# Altium integrated library Capacitor - Aluminium TH.IntLib: 4591 symbols (part 23 of 68)
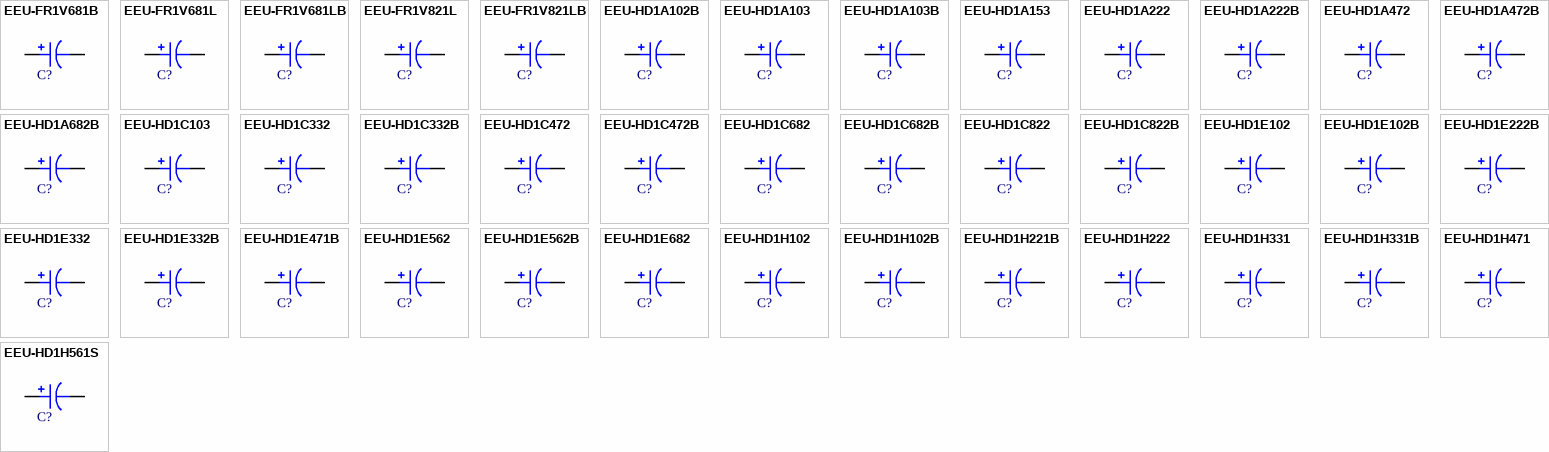
[diagram p136: symbols EEU-FR1V681B to EEU-HD1H561S]

## EEU-HD1C682
designator C?, comment 6800uF  (value not drawn)
CAP ALUM 6800UF 20% 16V RADIAL; Part Number: EEU-HD1C682; Manufacturer: Panasonic Electronic Components; TemperatureRange: -55C ~ 105C; Type: Polar; Ripple Current: 1.78A @ 120Hz; Value: 6800uF; PartId: 26969; Supplier 1: Digi-Key; Supplier Part Number 1: P15135-ND; ComponentLink1Description: Datasheet; ComponentLink1URL: //media.digikey.com/pdf/Data%20Sheets/Panasonic%20Capacitors%20PDFs/EEU-HD_Series_Spec.pdf; ComponentLink2Description: Digi-Key Listing; ComponentLink2URL: https://www.digikey.com/product-detail/en/panasonic-electronic-components/EEU-HD1C682/P15135-ND/2796090; Tolerance: 20%; Voltage: 16V; Price: 2.44; Device Package: Radial, Can, 16mm
footprint CAP AL TH D16 L7.5 H27
pins: 1, 2

## EEU-HD1C682B
designator C?, comment 6800uF  (value not drawn)
CAP ALUM 6800UF 20% 16V RADIAL; Part Number: EEU-HD1C682B; Manufacturer: Panasonic Electronic Components; TemperatureRange: -55C ~ 105C; Type: Polar; Ripple Current: 1.78A @ 120Hz; Value: 6800uF; PartId: 26877; Supplier 1: Digi-Key; Supplier Part Number 1: P15733TB-ND; ComponentLink1Description: Datasheet; ComponentLink1URL: //media.digikey.com/pdf/Data%20Sheets/Panasonic%20Capacitors%20PDFs/EEU-HD_Series_Spec.pdf; ComponentLink2Description: Digi-Key Listing; ComponentLink2URL: https://www.digikey.com/product-detail/en/panasonic-electronic-components/EEU-HD1C682B/P15733TB-ND/2764408; Tolerance: 20%; Voltage: 16V; Price: 1.2911; Device Package: Radial, Can, 16mm
footprint CAP AL TH D16 L7.5 H27
pins: 1, 2

## EEU-HD1C822
designator C?, comment 8200uF  (value not drawn)
CAP ALUM 8200UF 20% 16V RADIAL; Part Number: EEU-HD1C822; Manufacturer: Panasonic Electronic Components; TemperatureRange: -55C ~ 105C; Type: Polar; Ripple Current: 1.78A @ 120Hz; Value: 8200uF; PartId: 26967; Supplier 1: Digi-Key; Supplier Part Number 1: P15134-ND; ComponentLink1Description: Datasheet; ComponentLink1URL: //media.digikey.com/pdf/Data%20Sheets/Panasonic%20Capacitors%20PDFs/EEU-HD_Series_Spec.pdf; ComponentLink2Description: Digi-Key Listing; ComponentLink2URL: https://www.digikey.com/product-detail/en/panasonic-electronic-components/EEU-HD1C822/P15134-ND/2796091; Tolerance: 20%; Voltage: 16V; Price: 2.44; Device Package: Radial, Can, 16mm
footprint CAP AL TH D16 L7.5 H27
pins: 1, 2

## EEU-HD1C822B
designator C?, comment 8200uF  (value not drawn)
CAP ALUM 8200UF 20% 16V RADIAL; Part Number: EEU-HD1C822B; Manufacturer: Panasonic Electronic Components; TemperatureRange: -55C ~ 105C; Type: Polar; Ripple Current: 1.78A @ 120Hz; Value: 8200uF; PartId: 26876; Supplier 1: Digi-Key; Supplier Part Number 1: P15734TB-ND; ComponentLink1Description: Datasheet; ComponentLink1URL: //media.digikey.com/pdf/Data%20Sheets/Panasonic%20Capacitors%20PDFs/EEU-HD_Series_Spec.pdf; ComponentLink2Description: Digi-Key Listing; ComponentLink2URL: https://www.digikey.com/product-detail/en/panasonic-electronic-components/EEU-HD1C822B/P15734TB-ND/2764411; Tolerance: 20%; Voltage: 16V; Price: 1.2911; Device Package: Radial, Can, 16mm
footprint CAP AL TH D16 L7.5 H27
pins: 1, 2

## EEU-HD1E102
designator C?, comment 1000uF  (value not drawn)
CAP ALUM 1000UF 20% 25V RADIAL; Part Number: EEU-HD1E102; Manufacturer: Panasonic Electronic Components; TemperatureRange: -55C ~ 105C; Type: Polar; Ripple Current: 680mA @ 120Hz; Value: 1000uF; PartId: 25418; Supplier 1: Digi-Key; Supplier Part Number 1: P15144-ND; ComponentLink1Description: Datasheet; ComponentLink1URL: //media.digikey.com/pdf/Data%20Sheets/Panasonic%20Capacitors%20PDFs/EEU-HD_Series_Spec.pdf; ComponentLink2Description: Digi-Key Listing; ComponentLink2URL: https://www.digikey.com/product-detail/en/panasonic-electronic-components/EEU-HD1E102/P15144-ND/2796093; Tolerance: 20%; Voltage: 25V; Price: 0.99; Device Package: Radial, Can, 10mm
footprint CAP AL TH D10 L5 H17.5
pins: 1, 2

## EEU-HD1E102B
designator C?, comment 1000uF  (value not drawn)
CAP ALUM 1000UF 20% 25V RADIAL; Part Number: EEU-HD1E102B; Manufacturer: Panasonic Electronic Components; TemperatureRange: -55C ~ 105C; Type: Polar; Ripple Current: 680mA @ 120Hz; Value: 1000uF; PartId: 25166; Supplier 1: Digi-Key; Supplier Part Number 1: P15736TB-ND; ComponentLink1Description: Datasheet; ComponentLink1URL: //media.digikey.com/pdf/Data%20Sheets/Panasonic%20Capacitors%20PDFs/EEU-HD_Series_Spec.pdf; ComponentLink2Description: Digi-Key Listing; ComponentLink2URL: https://www.digikey.com/product-detail/en/panasonic-electronic-components/EEU-HD1E102B/P15736TB-ND/2764416; Tolerance: 20%; Voltage: 25V; Price: 0.4447; Device Package: Radial, Can, 10mm
footprint CAP AL TH D10 L5 H17.5
pins: 1, 2

## EEU-HD1E222B
designator C?, comment 2200uF  (value not drawn)
CAP ALUM 2200UF 20% 25V RADIAL; Part Number: EEU-HD1E222B; Manufacturer: Panasonic Electronic Components; TemperatureRange: -55C ~ 105C; Type: Polar; Ripple Current: 1.09A @ 120Hz; Value: 2200uF; PartId: 23516; Supplier 1: Digi-Key; Supplier Part Number 1: P15738CT-ND; ComponentLink1Description: Datasheet; ComponentLink1URL: //media.digikey.com/pdf/Data%20Sheets/Panasonic%20Capacitors%20PDFs/EEU-HD_Series_Spec.pdf; ComponentLink2Description: Digi-Key Listing; ComponentLink2URL: https://www.digikey.com/product-detail/en/panasonic-electronic-components/EEU-HD1E222B/P15738CT-ND/3831105; Tolerance: 20%; Voltage: 25V; Price: 1.77; Device Package: Radial, Can, 12.5mm
footprint CAP AL TH D12.5 L5 H22
pins: 1, 2

## EEU-HD1E332
designator C?, comment 3300uF  (value not drawn)
CAP ALUM 3300UF 20% 25V RADIAL; Part Number: EEU-HD1E332; Manufacturer: Panasonic Electronic Components; TemperatureRange: -55C ~ 105C; Type: Polar; Ripple Current: 1.4A @ 120Hz; Value: 3300uF; PartId: 24176; Supplier 1: Digi-Key; Supplier Part Number 1: P15142-ND; ComponentLink1Description: Datasheet; ComponentLink1URL: //media.digikey.com/pdf/Data%20Sheets/Panasonic%20Capacitors%20PDFs/EEU-HD_Series_Spec.pdf; ComponentLink2Description: Digi-Key Listing; ComponentLink2URL: https://www.digikey.com/product-detail/en/panasonic-electronic-components/EEU-HD1E332/P15142-ND/2796098; Tolerance: 20%; Voltage: 25V; Price: 1.9; Device Package: Radial, Can, 12.5mm
footprint CAP AL TH D12.5 L5 H27
pins: 1, 2

## EEU-HD1E332B
designator C?, comment 3300uF  (value not drawn)
CAP ALUM 3300UF 20% 25V RADIAL; Part Number: EEU-HD1E332B; Manufacturer: Panasonic Electronic Components; TemperatureRange: -55C ~ 105C; Type: Polar; Ripple Current: 1.4A @ 120Hz; Value: 3300uF; PartId: 23901; Supplier 1: Digi-Key; Supplier Part Number 1: P15740TB-ND; ComponentLink1Description: Datasheet; ComponentLink1URL: //media.digikey.com/pdf/Data%20Sheets/Panasonic%20Capacitors%20PDFs/EEU-HD_Series_Spec.pdf; ComponentLink2Description: Digi-Key Listing; ComponentLink2URL: https://www.digikey.com/product-detail/en/panasonic-electronic-components/EEU-HD1E332B/P15740TB-ND/2764382; Tolerance: 20%; Voltage: 25V; Price: 0.895; Device Package: Radial, Can, 12.5mm
footprint CAP AL TH D12.5 L5 H27
pins: 1, 2

## EEU-HD1E471B
designator C?, comment 470uF  (value not drawn)
CAP ALUM 470UF 20% 25V RADIAL; Part Number: EEU-HD1E471B; Manufacturer: Panasonic Electronic Components; TemperatureRange: -55C ~ 105C; Type: Polar; Ripple Current: 380mA @ 120Hz; Value: 470uF; PartId: 24795; Supplier 1: Digi-Key; Supplier Part Number 1: P15742TB-ND; ComponentLink1Description: Datasheet; ComponentLink1URL: //media.digikey.com/pdf/Data%20Sheets/Panasonic%20Capacitors%20PDFs/EEU-HD_Series_Spec.pdf; ComponentLink2Description: Digi-Key Listing; ComponentLink2URL: https://www.digikey.com/product-detail/en/panasonic-electronic-components/EEU-HD1E471B/P15742TB-ND/2764389; Tolerance: 20%; Voltage: 25V; Price: 0.4473; Device Package: Radial, Can, 10mm
footprint CAP AL TH D10 L5 H14.5
pins: 1, 2

## EEU-HD1E562
designator C?, comment 5600uF  (value not drawn)
CAP ALUM 5600UF 20% 25V RADIAL; Part Number: EEU-HD1E562; Manufacturer: Panasonic Electronic Components; TemperatureRange: -55C ~ 105C; Type: Polar; Ripple Current: 1.75A @ 120Hz; Value: 5600uF; PartId: 26966; Supplier 1: Digi-Key; Supplier Part Number 1: P15140-ND; ComponentLink1Description: Datasheet; ComponentLink1URL: //media.digikey.com/pdf/Data%20Sheets/Panasonic%20Capacitors%20PDFs/EEU-HD_Series_Spec.pdf; ComponentLink2Description: Digi-Key Listing; ComponentLink2URL: https://www.digikey.com/product-detail/en/panasonic-electronic-components/EEU-HD1E562/P15140-ND/2796102; Tolerance: 20%; Voltage: 25V; Price: 2.44; Device Package: Radial, Can, 16mm
footprint CAP AL TH D16 L7.5 H27
pins: 1, 2

## EEU-HD1E562B
designator C?, comment 5600uF  (value not drawn)
CAP ALUM 5600UF 20% 25V RADIAL; Part Number: EEU-HD1E562B; Manufacturer: Panasonic Electronic Components; TemperatureRange: -55C ~ 105C; Type: Polar; Ripple Current: 1.75A @ 120Hz; Value: 5600uF; PartId: 26873; Supplier 1: Digi-Key; Supplier Part Number 1: P15744TB-ND; ComponentLink1Description: Datasheet; ComponentLink1URL: //media.digikey.com/pdf/Data%20Sheets/Panasonic%20Capacitors%20PDFs/EEU-HD_Series_Spec.pdf; ComponentLink2Description: Digi-Key Listing; ComponentLink2URL: https://www.digikey.com/product-detail/en/panasonic-electronic-components/EEU-HD1E562B/P15744TB-ND/2764394; Tolerance: 20%; Voltage: 25V; Price: 1.2911; Device Package: Radial, Can, 16mm
footprint CAP AL TH D16 L7.5 H27
pins: 1, 2

## EEU-HD1E682
designator C?, comment 6800uF  (value not drawn)
CAP ALUM 6800UF 20% 25V RADIAL; Part Number: EEU-HD1E682; Manufacturer: Panasonic Electronic Components; TemperatureRange: -55C ~ 105C; Type: Polar; Ripple Current: 2.04A @ 120Hz; Value: 6800uF; PartId: 27269; Supplier 1: Digi-Key; Supplier Part Number 1: P15138-ND; ComponentLink1Description: Datasheet; ComponentLink1URL: //media.digikey.com/pdf/Data%20Sheets/Panasonic%20Capacitors%20PDFs/EEU-HD_Series_Spec.pdf; ComponentLink2Description: Digi-Key Listing; ComponentLink2URL: https://www.digikey.com/product-detail/en/panasonic-electronic-components/EEU-HD1E682/P15138-ND/2796104; Tolerance: 20%; Voltage: 25V; Price: 2.99; Device Package: Radial, Can, 16mm
footprint CAP AL TH D16 L7.5 H33.5
pins: 1, 2

## EEU-HD1H102
designator C?, comment 1000uF  (value not drawn)
CAP ALUM 1000UF 20% 50V RADIAL; Part Number: EEU-HD1H102; Manufacturer: Panasonic Electronic Components; TemperatureRange: -55C ~ 105C; Type: Polar; Ripple Current: 950mA @ 120Hz; Value: 1000uF; PartId: 24179; Supplier 1: Digi-Key; Supplier Part Number 1: P15163-ND; ComponentLink1Description: Datasheet; ComponentLink1URL: //media.digikey.com/pdf/Data%20Sheets/Panasonic%20Capacitors%20PDFs/EEU-HD_Series_Spec.pdf; ComponentLink2Description: Digi-Key Listing; ComponentLink2URL: https://www.digikey.com/product-detail/en/panasonic-electronic-components/EEU-HD1H102/P15163-ND/2796764; Tolerance: 20%; Voltage: 50V; Price: 1.9; Device Package: Radial, Can, 12.5mm
footprint CAP AL TH D12.5 L5 H27
pins: 1, 2

## EEU-HD1H102B
designator C?, comment 1000uF  (value not drawn)
CAP ALUM 1000UF 20% 50V RADIAL; Part Number: EEU-HD1H102B; Manufacturer: Panasonic Electronic Components; TemperatureRange: -55C ~ 105C; Type: Polar; Ripple Current: 950mA @ 120Hz; Value: 1000uF; PartId: 23904; Supplier 1: Digi-Key; Supplier Part Number 1: P15748TB-ND; ComponentLink1Description: Datasheet; ComponentLink1URL: //media.digikey.com/pdf/Data%20Sheets/Panasonic%20Capacitors%20PDFs/EEU-HD_Series_Spec.pdf; ComponentLink2Description: Digi-Key Listing; ComponentLink2URL: https://www.digikey.com/product-detail/en/panasonic-electronic-components/EEU-HD1H102B/P15748TB-ND/2764406; Tolerance: 20%; Voltage: 50V; Price: 0.895; Device Package: Radial, Can, 12.5mm
footprint CAP AL TH D12.5 L5 H27
pins: 1, 2

## EEU-HD1H221B
designator C?, comment 220uF  (value not drawn)
CAP ALUM 220UF 20% 50V RADIAL; Part Number: EEU-HD1H221B; Manufacturer: Panasonic Electronic Components; TemperatureRange: -55C ~ 105C; Type: Polar; Ripple Current: 300mA @ 120Hz; Value: 220uF; PartId: 24794; Supplier 1: Digi-Key; Supplier Part Number 1: P15751TB-ND; ComponentLink1Description: Datasheet; ComponentLink1URL: //media.digikey.com/pdf/Data%20Sheets/Panasonic%20Capacitors%20PDFs/EEU-HD_Series_Spec.pdf; ComponentLink2Description: Digi-Key Listing; ComponentLink2URL: https://www.digikey.com/product-detail/en/panasonic-electronic-components/EEU-HD1H221B/P15751TB-ND/2764417; Tolerance: 20%; Voltage: 50V; Price: 0.4473; Device Package: Radial, Can, 10mm
footprint CAP AL TH D10 L5 H14.5
pins: 1, 2

## EEU-HD1H222
designator C?, comment 2200uF  (value not drawn)
CAP ALUM 2200UF 20% 50V RADIAL; Part Number: EEU-HD1H222; Manufacturer: Panasonic Electronic Components; TemperatureRange: -55C ~ 105C; Type: Polar; Ripple Current: 1.47A @ 120Hz; Value: 2200uF; PartId: 27271; Supplier 1: Digi-Key; Supplier Part Number 1: P15152-ND; ComponentLink1Description: Datasheet; ComponentLink1URL: //media.digikey.com/pdf/Data%20Sheets/Panasonic%20Capacitors%20PDFs/EEU-HD_Series_Spec.pdf; ComponentLink2Description: Digi-Key Listing; ComponentLink2URL: https://www.digikey.com/product-detail/en/panasonic-electronic-components/EEU-HD1H222/P15152-ND/2796768; Tolerance: 20%; Voltage: 50V; Price: 2.99; Device Package: Radial, Can, 16mm
footprint CAP AL TH D16 L7.5 H33.5
pins: 1, 2

## EEU-HD1H331
designator C?, comment 330uF  (value not drawn)
CAP ALUM 330UF 20% 50V RADIAL; Part Number: EEU-HD1H331; Manufacturer: Panasonic Electronic Components; TemperatureRange: -55C ~ 105C; Type: Polar; Ripple Current: 410mA @ 120Hz; Value: 330uF; PartId: 25419; Supplier 1: Digi-Key; Supplier Part Number 1: P15158-ND; ComponentLink1Description: Datasheet; ComponentLink1URL: //media.digikey.com/pdf/Data%20Sheets/Panasonic%20Capacitors%20PDFs/EEU-HD_Series_Spec.pdf; ComponentLink2Description: Digi-Key Listing; ComponentLink2URL: https://www.digikey.com/product-detail/en/panasonic-electronic-components/EEU-HD1H331/P15158-ND/2796771; Tolerance: 20%; Voltage: 50V; Price: 0.99; Device Package: Radial, Can, 10mm
footprint CAP AL TH D10 L5 H17.5
pins: 1, 2

## EEU-HD1H331B
designator C?, comment 330uF  (value not drawn)
CAP ALUM 330UF 20% 50V RADIAL; Part Number: EEU-HD1H331B; Manufacturer: Panasonic Electronic Components; TemperatureRange: -55C ~ 105C; Type: Polar; Ripple Current: 410mA @ 120Hz; Value: 330uF; PartId: 25164; Supplier 1: Digi-Key; Supplier Part Number 1: P15754TB-ND; ComponentLink1Description: Datasheet; ComponentLink1URL: //media.digikey.com/pdf/Data%20Sheets/Panasonic%20Capacitors%20PDFs/EEU-HD_Series_Spec.pdf; ComponentLink2Description: Digi-Key Listing; ComponentLink2URL: https://www.digikey.com/product-detail/en/panasonic-electronic-components/EEU-HD1H331B/P15754TB-ND/2764424; Tolerance: 20%; Voltage: 50V; Price: 0.4447; Device Package: Radial, Can, 10mm
footprint CAP AL TH D10 L5 H17.5
pins: 1, 2

## EEU-HD1H471
designator C?, comment 470uF  (value not drawn)
CAP ALUM 470UF 20% 50V RADIAL; Part Number: EEU-HD1H471; Manufacturer: Panasonic Electronic Components; TemperatureRange: -55C ~ 105C; Type: Polar; Ripple Current: 530mA @ 120Hz; Value: 470uF; PartId: 25992; Supplier 1: Digi-Key; Supplier Part Number 1: P15149-ND; ComponentLink1Description: Datasheet; ComponentLink1URL: //media.digikey.com/pdf/Data%20Sheets/Panasonic%20Capacitors%20PDFs/EEU-HD_Series_Spec.pdf; ComponentLink2Description: Digi-Key Listing; ComponentLink2URL: https://www.digikey.com/product-detail/en/panasonic-electronic-components/EEU-HD1H471/P15149-ND/2796775; Tolerance: 20%; Voltage: 50V; Price: 1.18; Device Package: Radial, Can, 10mm
footprint CAP AL TH D10 L5 H22
pins: 1, 2

## EEU-HD1H561S
designator C?, comment 560uF  (value not drawn)
CAP ALUM 560UF 20% 50V RADIAL; Part Number: EEU-HD1H561S; Manufacturer: Panasonic Electronic Components; TemperatureRange: -55C ~ 105C; Type: Polar; Ripple Current: 650mA @ 120Hz; Value: 560uF; PartId: 26263; Supplier 1: Digi-Key; Supplier Part Number 1: P15159-ND; ComponentLink1Description: Datasheet; ComponentLink1URL: //media.digikey.com/pdf/Data%20Sheets/Panasonic%20Capacitors%20PDFs/EEU-HD_Series_Spec.pdf; ComponentLink2Description: Digi-Key Listing; ComponentLink2URL: https://www.digikey.com/product-detail/en/panasonic-electronic-components/EEU-HD1H561S/P15159-ND/2796777; Tolerance: 20%; Voltage: 50V; Price: 1.79; Device Package: Radial, Can, 16mm
footprint CAP AL TH D16 L7.5 H16.5
pins: 1, 2

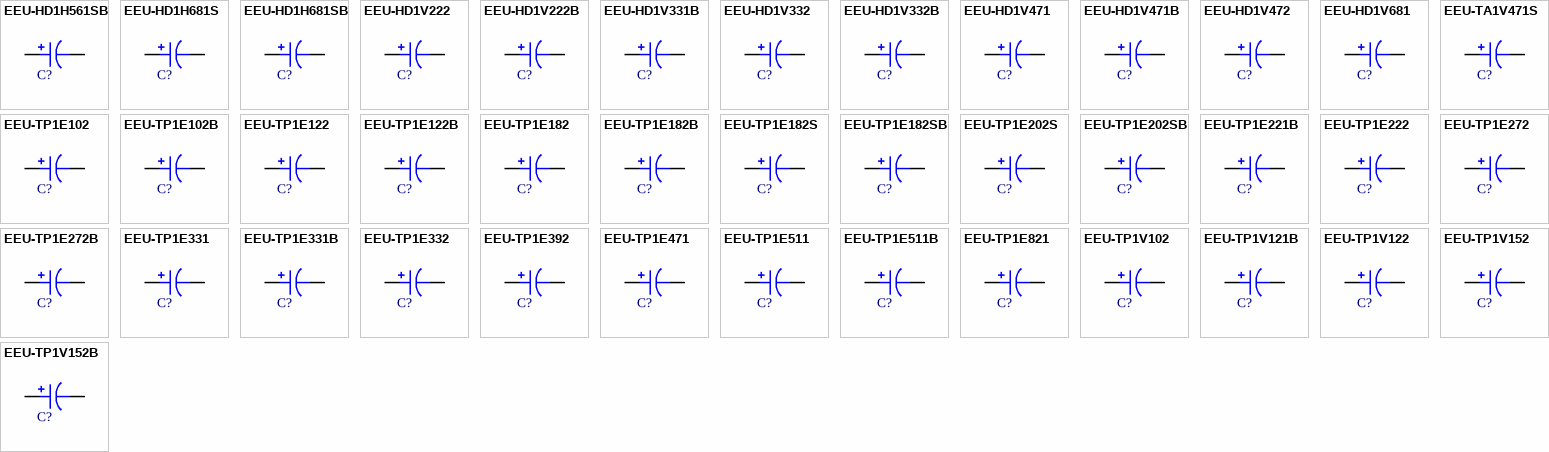
[diagram p37: symbols EEU-HD1H561SB to EEU-TP1V152B]

## EEU-HD1H561SB
designator C?, comment 560uF  (value not drawn)
CAP ALUM 560UF 20% 50V RADIAL; Part Number: EEU-HD1H561SB; Manufacturer: Panasonic Electronic Components; TemperatureRange: -55C ~ 105C; Type: Polar; Ripple Current: 650mA @ 120Hz; Value: 560uF; PartId: 26259; Supplier 1: Digi-Key; Supplier Part Number 1: P15759TB-ND; ComponentLink1Description: Datasheet; ComponentLink1URL: //media.digikey.com/pdf/Data%20Sheets/Panasonic%20Capacitors%20PDFs/EEU-HD_Series_Spec.pdf; ComponentLink2Description: Digi-Key Listing; ComponentLink2URL: https://www.digikey.com/product-detail/en/panasonic-electronic-components/EEU-HD1H561SB/P15759TB-ND/2764433; Tolerance: 20%; Voltage: 50V; Price: 0.9475; Device Package: Radial, Can, 16mm
footprint CAP AL TH D16 L7.5 H16.5
pins: 1, 2

## EEU-HD1H681S
designator C?, comment 680uF  (value not drawn)
CAP ALUM 680UF 20% 50V RADIAL; Part Number: EEU-HD1H681S; Manufacturer: Panasonic Electronic Components; TemperatureRange: -55C ~ 105C; Type: Polar; Ripple Current: 650mA @ 120Hz; Value: 680uF; PartId: 26262; Supplier 1: Digi-Key; Supplier Part Number 1: P15165-ND; ComponentLink1Description: Datasheet; ComponentLink1URL: //media.digikey.com/pdf/Data%20Sheets/Panasonic%20Capacitors%20PDFs/EEU-HD_Series_Spec.pdf; ComponentLink2Description: Digi-Key Listing; ComponentLink2URL: https://www.digikey.com/product-detail/en/panasonic-electronic-components/EEU-HD1H681S/P15165-ND/2796835; Tolerance: 20%; Voltage: 50V; Price: 1.79; Device Package: Radial, Can, 16mm
footprint CAP AL TH D16 L7.5 H16.5
pins: 1, 2

## EEU-HD1H681SB
designator C?, comment 680uF  (value not drawn)
CAP ALUM 680UF 20% 50V RADIAL; Part Number: EEU-HD1H681SB; Manufacturer: Panasonic Electronic Components; TemperatureRange: -55C ~ 105C; Type: Polar; Ripple Current: 650mA @ 120Hz; Value: 680uF; PartId: 26260; Supplier 1: Digi-Key; Supplier Part Number 1: P15761TB-ND; ComponentLink1Description: Datasheet; ComponentLink1URL: //media.digikey.com/pdf/Data%20Sheets/Panasonic%20Capacitors%20PDFs/EEU-HD_Series_Spec.pdf; ComponentLink2Description: Digi-Key Listing; ComponentLink2URL: https://www.digikey.com/product-detail/en/panasonic-electronic-components/EEU-HD1H681SB/P15761TB-ND/2764384; Tolerance: 20%; Voltage: 50V; Price: 0.9475; Device Package: Radial, Can, 16mm
footprint CAP AL TH D16 L7.5 H16.5
pins: 1, 2

## EEU-HD1V222
designator C?, comment 2200uF  (value not drawn)
CAP ALUM 2200UF 20% 35V RADIAL; Part Number: EEU-HD1V222; Manufacturer: Panasonic Electronic Components; TemperatureRange: -55C ~ 105C; Type: Polar; Ripple Current: 1.26A @ 120Hz; Value: 2200uF; PartId: 24178; Supplier 1: Digi-Key; Supplier Part Number 1: P15177-ND; ComponentLink1Description: Datasheet; ComponentLink1URL: //media.digikey.com/pdf/Data%20Sheets/Panasonic%20Capacitors%20PDFs/EEU-HD_Series_Spec.pdf; ComponentLink2Description: Digi-Key Listing; ComponentLink2URL: https://www.digikey.com/product-detail/en/panasonic-electronic-components/EEU-HD1V222/P15177-ND/2796842; Tolerance: 20%; Voltage: 35V; Price: 1.9; Device Package: Radial, Can, 12.5mm
footprint CAP AL TH D12.5 L5 H27
pins: 1, 2

## EEU-HD1V222B
designator C?, comment 2200uF  (value not drawn)
CAP ALUM 2200UF 20% 35V RADIAL; Part Number: EEU-HD1V222B; Manufacturer: Panasonic Electronic Components; TemperatureRange: -55C ~ 105C; Type: Polar; Ripple Current: 1.26A @ 120Hz; Value: 2200uF; PartId: 23902; Supplier 1: Digi-Key; Supplier Part Number 1: P15768TB-ND; ComponentLink1Description: Datasheet; ComponentLink1URL: //media.digikey.com/pdf/Data%20Sheets/Panasonic%20Capacitors%20PDFs/EEU-HD_Series_Spec.pdf; ComponentLink2Description: Digi-Key Listing; ComponentLink2URL: https://www.digikey.com/product-detail/en/panasonic-electronic-components/EEU-HD1V222B/P15768TB-ND/2764413; Tolerance: 20%; Voltage: 35V; Price: 0.895; Device Package: Radial, Can, 12.5mm
footprint CAP AL TH D12.5 L5 H27
pins: 1, 2

## EEU-HD1V331B
designator C?, comment 330uF  (value not drawn)
CAP ALUM 330UF 20% 35V RADIAL; Part Number: EEU-HD1V331B; Manufacturer: Panasonic Electronic Components; TemperatureRange: -55C ~ 105C; Type: Polar; Ripple Current: 350mA @ 120Hz; Value: 330uF; PartId: 24796; Supplier 1: Digi-Key; Supplier Part Number 1: P15769TB-ND; ComponentLink1Description: Datasheet; ComponentLink1URL: //media.digikey.com/pdf/Data%20Sheets/Panasonic%20Capacitors%20PDFs/EEU-HD_Series_Spec.pdf; ComponentLink2Description: Digi-Key Listing; ComponentLink2URL: https://www.digikey.com/product-detail/en/panasonic-electronic-components/EEU-HD1V331B/P15769TB-ND/2764420; Tolerance: 20%; Voltage: 35V; Price: 0.4473; Device Package: Radial, Can, 10mm
footprint CAP AL TH D10 L5 H14.5
pins: 1, 2

## EEU-HD1V332
designator C?, comment 3300uF  (value not drawn)
CAP ALUM 3300UF 20% 35V RADIAL; Part Number: EEU-HD1V332; Manufacturer: Panasonic Electronic Components; TemperatureRange: -55C ~ 105C; Type: Polar; Ripple Current: 1.61A @ 120Hz; Value: 3300uF; PartId: 26965; Supplier 1: Digi-Key; Supplier Part Number 1: P15175-ND; ComponentLink1Description: Datasheet; ComponentLink1URL: //media.digikey.com/pdf/Data%20Sheets/Panasonic%20Capacitors%20PDFs/EEU-HD_Series_Spec.pdf; ComponentLink2Description: Digi-Key Listing; ComponentLink2URL: https://www.digikey.com/product-detail/en/panasonic-electronic-components/EEU-HD1V332/P15175-ND/2796844; Tolerance: 20%; Voltage: 35V; Price: 2.44; Device Package: Radial, Can, 16mm
footprint CAP AL TH D16 L7.5 H27
pins: 1, 2

## EEU-HD1V332B
designator C?, comment 3300uF  (value not drawn)
CAP ALUM 3300UF 20% 35V RADIAL; Part Number: EEU-HD1V332B; Manufacturer: Panasonic Electronic Components; TemperatureRange: -55C ~ 105C; Type: Polar; Ripple Current: 1.61A @ 120Hz; Value: 3300uF; PartId: 26874; Supplier 1: Digi-Key; Supplier Part Number 1: P15770TB-ND; ComponentLink1Description: Datasheet; ComponentLink1URL: //media.digikey.com/pdf/Data%20Sheets/Panasonic%20Capacitors%20PDFs/EEU-HD_Series_Spec.pdf; ComponentLink2Description: Digi-Key Listing; ComponentLink2URL: https://www.digikey.com/product-detail/en/panasonic-electronic-components/EEU-HD1V332B/P15770TB-ND/2764426; Tolerance: 20%; Voltage: 35V; Price: 1.2911; Device Package: Radial, Can, 16mm
footprint CAP AL TH D16 L7.5 H27
pins: 1, 2

## EEU-HD1V471
designator C?, comment 470uF  (value not drawn)
CAP ALUM 470UF 20% 35V RADIAL; Part Number: EEU-HD1V471; Manufacturer: Panasonic Electronic Components; TemperatureRange: -55C ~ 105C; Type: Polar; Ripple Current: 460mA @ 120Hz; Value: 470uF; PartId: 25422; Supplier 1: Digi-Key; Supplier Part Number 1: P15167-ND; ComponentLink1Description: Datasheet; ComponentLink1URL: //media.digikey.com/pdf/Data%20Sheets/Panasonic%20Capacitors%20PDFs/EEU-HD_Series_Spec.pdf; ComponentLink2Description: Digi-Key Listing; ComponentLink2URL: https://www.digikey.com/product-detail/en/panasonic-electronic-components/EEU-HD1V471/P15167-ND/2796846; Tolerance: 20%; Voltage: 35V; Price: 0.99; Device Package: Radial, Can, 10mm
footprint CAP AL TH D10 L5 H17.5
pins: 1, 2

## EEU-HD1V471B
designator C?, comment 470uF  (value not drawn)
CAP ALUM 470UF 20% 35V RADIAL; Part Number: EEU-HD1V471B; Manufacturer: Panasonic Electronic Components; TemperatureRange: -55C ~ 105C; Type: Polar; Ripple Current: 460mA @ 120Hz; Value: 470uF; PartId: 25167; Supplier 1: Digi-Key; Supplier Part Number 1: P15772TB-ND; ComponentLink1Description: Datasheet; ComponentLink1URL: //media.digikey.com/pdf/Data%20Sheets/Panasonic%20Capacitors%20PDFs/EEU-HD_Series_Spec.pdf; ComponentLink2Description: Digi-Key Listing; ComponentLink2URL: https://www.digikey.com/product-detail/en/panasonic-electronic-components/EEU-HD1V471B/P15772TB-ND/2764430; Tolerance: 20%; Voltage: 35V; Price: 0.4447; Device Package: Radial, Can, 10mm
footprint CAP AL TH D10 L5 H17.5
pins: 1, 2

## EEU-HD1V472
designator C?, comment 4700uF  (value not drawn)
CAP ALUM 4700UF 20% 35V RADIAL; Part Number: EEU-HD1V472; Manufacturer: Panasonic Electronic Components; TemperatureRange: -55C ~ 105C; Type: Polar; Ripple Current: 1.91A @ 120Hz; Value: 4700uF; PartId: 27268; Supplier 1: Digi-Key; Supplier Part Number 1: P15166-ND; ComponentLink1Description: Datasheet; ComponentLink1URL: //media.digikey.com/pdf/Data%20Sheets/Panasonic%20Capacitors%20PDFs/EEU-HD_Series_Spec.pdf; ComponentLink2Description: Digi-Key Listing; ComponentLink2URL: https://www.digikey.com/product-detail/en/panasonic-electronic-components/EEU-HD1V472/P15166-ND/2796847; Tolerance: 20%; Voltage: 35V; Price: 2.99; Device Package: Radial, Can, 16mm
footprint CAP AL TH D16 L7.5 H33.5
pins: 1, 2

## EEU-HD1V681
designator C?, comment 680uF  (value not drawn)
CAP ALUM 680UF 20% 35V RADIAL; Part Number: EEU-HD1V681; Manufacturer: Panasonic Electronic Components; TemperatureRange: -55C ~ 105C; Type: Polar; Ripple Current: 460mA @ 120Hz; Value: 680uF; PartId: 25420; Supplier 1: Digi-Key; Supplier Part Number 1: P15174-ND; ComponentLink1Description: Datasheet; ComponentLink1URL: //media.digikey.com/pdf/Data%20Sheets/Panasonic%20Capacitors%20PDFs/EEU-HD_Series_Spec.pdf; ComponentLink2Description: Digi-Key Listing; ComponentLink2URL: https://www.digikey.com/product-detail/en/panasonic-electronic-components/EEU-HD1V681/P15174-ND/2796848; Tolerance: 20%; Voltage: 35V; Price: 0.99; Device Package: Radial, Can, 10mm
footprint CAP AL TH D10 L5 H17.5
pins: 1, 2

## EEU-TA1V471S
designator C?, comment 470uF  (value not drawn)
CAP ALUM 470UF 20% 35V RADIAL; Part Number: EEU-TA1V471S; Manufacturer: Panasonic Electronic Components; TemperatureRange: -40C ~ 125C; Type: Polar; Ripple Current: 1.088A @ 120Hz; Impedance: 88 mOhm; Value: 470uF; PartId: 26261; Supplier 1: Digi-Key; Supplier Part Number 1: P19505-ND; ComponentLink1Description: Datasheet; ComponentLink1URL: http://industrial.panasonic.com/www-cgi/jvcr13pz.cgi?E+PZ+3+ABA0028+EEUTA1V471S+8+WW; ComponentLink2Description: Digi-Key Listing; ComponentLink2URL: https://www.digikey.com/product-detail/en/panasonic-electronic-components/EEU-TA1V471S/P19505-ND/2689989; Tolerance: 20%; Voltage: 35V; Price: 1.55; Device Package: Radial, Can, 16mm
footprint CAP AL TH D16 L7.5 H16.5
pins: 1, 2

## EEU-TP1E102
designator C?, comment 1000uF  (value not drawn)
CAP ALUM 1000UF 20% 25V RADIAL; Part Number: EEU-TP1E102; Manufacturer: Panasonic Electronic Components; TemperatureRange: -40C ~ 135C; Type: Polar; Ripple Current: 1.395A @ 120Hz; Value: 1000uF; PartId: 23518; Supplier 1: Digi-Key; Supplier Part Number 1: P14909-ND; ComponentLink1Description: Datasheet; ComponentLink1URL: http://industrial.panasonic.com/www-cgi/jvcr13pz.cgi?E+PZ+4+ABA0132+EEUTP1E102+8+WW; ComponentLink2Description: Digi-Key Listing; ComponentLink2URL: https://www.digikey.com/product-detail/en/panasonic-electronic-components/EEU-TP1E102/P14909-ND/2757717; Tolerance: 20%; Voltage: 25V; Price: 1.82; Device Package: Radial, Can, 12.5mm
footprint CAP AL TH D12.5 L5 H22
pins: 1, 2

## EEU-TP1E102B
designator C?, comment 1000uF  (value not drawn)
CAP ALUM 1000UF 20% 25V RADIAL; Part Number: EEU-TP1E102B; Manufacturer: Panasonic Electronic Components; TemperatureRange: -40C ~ 135C; Type: Polar; Ripple Current: 1.395A @ 120Hz; Value: 1000uF; PartId: 23312; Supplier 1: Digi-Key; Supplier Part Number 1: P15690TB-ND; ComponentLink1Description: Datasheet; ComponentLink1URL: http://industrial.panasonic.com/www-cgi/jvcr13pz.cgi?E+PZ+4+ABA0132+EEUTP1E102B+8+WW; ComponentLink2Description: Digi-Key Listing; ComponentLink2URL: https://www.digikey.com/product-detail/en/panasonic-electronic-components/EEU-TP1E102B/P15690TB-ND/2756347; Tolerance: 20%; Voltage: 25V; Price: 0.8126; Device Package: Radial, Can, 12.5mm
footprint CAP AL TH D12.5 L5 H22
pins: 1, 2

## EEU-TP1E122
designator C?, comment 1200uF  (value not drawn)
CAP ALUM 1200UF 20% 25V RADIAL; Part Number: EEU-TP1E122; Manufacturer: Panasonic Electronic Components; TemperatureRange: -40C ~ 135C; Type: Polar; Ripple Current: 1.488A @ 120Hz; Value: 1200uF; PartId: 23522; Supplier 1: Digi-Key; Supplier Part Number 1: P14908-ND; ComponentLink1Description: Datasheet; ComponentLink1URL: http://industrial.panasonic.com/www-cgi/jvcr13pz.cgi?E+PZ+4+ABA0132+EEUTP1E122+8+WW; ComponentLink2Description: Digi-Key Listing; ComponentLink2URL: https://www.digikey.com/product-detail/en/panasonic-electronic-components/EEU-TP1E122/P14908-ND/2757738; Tolerance: 20%; Voltage: 25V; Price: 1.82; Device Package: Radial, Can, 12.5mm
footprint CAP AL TH D12.5 L5 H22
pins: 1, 2

## EEU-TP1E122B
designator C?, comment 1200uF  (value not drawn)
CAP ALUM 1200UF 20% 25V RADIAL; Part Number: EEU-TP1E122B; Manufacturer: Panasonic Electronic Components; TemperatureRange: -40C ~ 135C; Type: Polar; Ripple Current: 1.488A @ 120Hz; Value: 1200uF; PartId: 23313; Supplier 1: Digi-Key; Supplier Part Number 1: P15691TB-ND; ComponentLink1Description: Datasheet; ComponentLink1URL: http://industrial.panasonic.com/www-cgi/jvcr13pz.cgi?E+PZ+4+ABA0132+EEUTP1E122B+8+WW; ComponentLink2Description: Digi-Key Listing; ComponentLink2URL: https://www.digikey.com/product-detail/en/panasonic-electronic-components/EEU-TP1E122B/P15691TB-ND/2756355; Tolerance: 20%; Voltage: 25V; Price: 0.8126; Device Package: Radial, Can, 12.5mm
footprint CAP AL TH D12.5 L5 H22
pins: 1, 2

## EEU-TP1E182
designator C?, comment 1800uF  (value not drawn)
CAP ALUM 1800UF 20% 25V RADIAL; Part Number: EEU-TP1E182; Manufacturer: Panasonic Electronic Components; TemperatureRange: -40C ~ 135C; Type: Polar; Ripple Current: 1.744A @ 120Hz; Value: 1800uF; PartId: 24183; Supplier 1: Digi-Key; Supplier Part Number 1: P14907-ND; ComponentLink1Description: Datasheet; ComponentLink1URL: http://industrial.panasonic.com/www-cgi/jvcr13pz.cgi?E+PZ+4+ABA0132+EEUTP1E182+8+WW; ComponentLink2Description: Digi-Key Listing; ComponentLink2URL: https://www.digikey.com/product-detail/en/panasonic-electronic-components/EEU-TP1E182/P14907-ND/2757740; Tolerance: 20%; Voltage: 25V; Price: 1.95; Device Package: Radial, Can, 12.5mm
footprint CAP AL TH D12.5 L5 H27
pins: 1, 2

## EEU-TP1E182B
designator C?, comment 1800uF  (value not drawn)
CAP ALUM 1800UF 20% 25V RADIAL; Part Number: EEU-TP1E182B; Manufacturer: Panasonic Electronic Components; TemperatureRange: -40C ~ 135C; Type: Polar; Ripple Current: 1.744A @ 120Hz; Value: 1800uF; PartId: 24191; Supplier 1: Digi-Key; Supplier Part Number 1: P15692CT-ND; ComponentLink1Description: Datasheet; ComponentLink2Description: Digi-Key Listing; ComponentLink2URL: https://www.digikey.com/product-detail/en/panasonic-electronic-components/EEU-TP1E182B/P15692CT-ND/3831059; Tolerance: 20%; Voltage: 25V; Price: 2.19; Device Package: Radial, Can, 12.5mm
footprint CAP AL TH D12.5 L5 H27
pins: 1, 2

## EEU-TP1E182S
designator C?, comment 1800uF  (value not drawn)
CAP ALUM 1800UF 20% 25V RADIAL; Part Number: EEU-TP1E182S; Manufacturer: Panasonic Electronic Components; TemperatureRange: -40C ~ 135C; Type: Polar; Ripple Current: 1.904A @ 120Hz; Value: 1800uF; PartId: 26505; Supplier 1: Digi-Key; Supplier Part Number 1: P14923-ND; ComponentLink1Description: Datasheet; ComponentLink1URL: http://industrial.panasonic.com/www-cgi/jvcr13pz.cgi?E+PZ+4+ABA0132+EEUTP1E182S+8+WW; ComponentLink2Description: Digi-Key Listing; ComponentLink2URL: https://www.digikey.com/product-detail/en/panasonic-electronic-components/EEU-TP1E182S/P14923-ND/2757716; Tolerance: 20%; Voltage: 25V; Price: 2.48; Device Package: Radial, Can, 16mm
footprint CAP AL TH D16 L7.5 H22
pins: 1, 2

## EEU-TP1E182SB
designator C?, comment 1800uF  (value not drawn)
CAP ALUM 1800UF 20% 25V RADIAL; Part Number: EEU-TP1E182SB; Manufacturer: Panasonic Electronic Components; TemperatureRange: -40C ~ 135C; Type: Polar; Ripple Current: 1.904A @ 120Hz; Value: 1800uF; PartId: 26431; Supplier 1: Digi-Key; Supplier Part Number 1: P15693TB-ND; ComponentLink1Description: Datasheet; ComponentLink1URL: http://industrial.panasonic.com/www-cgi/jvcr13pz.cgi?E+PZ+4+ABA0132+EEUTP1E182SB+8+WW; ComponentLink2Description: Digi-Key Listing; ComponentLink2URL: https://www.digikey.com/product-detail/en/panasonic-electronic-components/EEU-TP1E182SB/P15693TB-ND/2756351; Tolerance: 20%; Voltage: 25V; Price: 1.3114; Device Package: Radial, Can, 16mm
footprint CAP AL TH D16 L7.5 H22
pins: 1, 2

## EEU-TP1E202S
designator C?, comment 2000uF  (value not drawn)
CAP ALUM 2000UF 20% 25V RADIAL; Part Number: EEU-TP1E202S; Manufacturer: Panasonic Electronic Components; TemperatureRange: -40C ~ 135C; Type: Polar; Ripple Current: 1.904A @ 120Hz; Value: 2000uF; PartId: 26503; Supplier 1: Digi-Key; Supplier Part Number 1: P14922-ND; ComponentLink1Description: Datasheet; ComponentLink1URL: http://industrial.panasonic.com/www-cgi/jvcr13pz.cgi?E+PZ+4+ABA0132+EEUTP1E202S+8+WW; ComponentLink2Description: Digi-Key Listing; ComponentLink2URL: https://www.digikey.com/product-detail/en/panasonic-electronic-components/EEU-TP1E202S/P14922-ND/2757718; Tolerance: 20%; Voltage: 25V; Price: 2.48; Device Package: Radial, Can, 16mm
footprint CAP AL TH D16 L7.5 H22
pins: 1, 2

## EEU-TP1E202SB
designator C?, comment 2000uF  (value not drawn)
CAP ALUM 2000UF 20% 25V RADIAL; Part Number: EEU-TP1E202SB; Manufacturer: Panasonic Electronic Components; TemperatureRange: -40C ~ 135C; Type: Polar; Ripple Current: 1.904A @ 120Hz; Value: 2000uF; PartId: 26430; Supplier 1: Digi-Key; Supplier Part Number 1: P15694TB-ND; ComponentLink1Description: Datasheet; ComponentLink1URL: http://industrial.panasonic.com/www-cgi/jvcr13pz.cgi?E+PZ+4+ABA0132+EEUTP1E202SB+8+WW; ComponentLink2Description: Digi-Key Listing; ComponentLink2URL: https://www.digikey.com/product-detail/en/panasonic-electronic-components/EEU-TP1E202SB/P15694TB-ND/2756357; Tolerance: 20%; Voltage: 25V; Price: 1.3114; Device Package: Radial, Can, 16mm
footprint CAP AL TH D16 L7.5 H22
pins: 1, 2

## EEU-TP1E221B
designator C?, comment 220uF  (value not drawn)
CAP ALUM 220UF 20% 25V RADIAL; Part Number: EEU-TP1E221B; Manufacturer: Panasonic Electronic Components; TemperatureRange: -40C ~ 135C; Type: Polar; Ripple Current: 377mA @ 120Hz; Value: 220uF; PartId: 24818; Supplier 1: Digi-Key; Supplier Part Number 1: P15684TB-ND; ComponentLink1Description: Datasheet; ComponentLink1URL: http://industrial.panasonic.com/www-cgi/jvcr13pz.cgi?E+PZ+4+ABA0132+EEUTP1E221B+8+WW; ComponentLink2Description: Digi-Key Listing; ComponentLink2URL: https://www.digikey.com/product-detail/en/panasonic-electronic-components/EEU-TP1E221B/P15684TB-ND/2756338; Tolerance: 20%; Voltage: 25V; Price: 0.4564; Device Package: Radial, Can, 10mm
footprint CAP AL TH D10 L5 H14.5
pins: 1, 2

## EEU-TP1E222
designator C?, comment 2200uF  (value not drawn)
CAP ALUM 2200UF 20% 25V RADIAL; Part Number: EEU-TP1E222; Manufacturer: Panasonic Electronic Components; TemperatureRange: -40C ~ 135C; Type: Polar; Ripple Current: 2.208A @ 120Hz; Value: 2200uF; PartId: 26974; Supplier 1: Digi-Key; Supplier Part Number 1: P14906-ND; ComponentLink1Description: Datasheet; ComponentLink1URL: http://industrial.panasonic.com/www-cgi/jvcr13pz.cgi?E+PZ+4+ABA0132+EEUTP1E222+8+WW; ComponentLink2Description: Digi-Key Listing; ComponentLink2URL: https://www.digikey.com/product-detail/en/panasonic-electronic-components/EEU-TP1E222/P14906-ND/2757719; Tolerance: 20%; Voltage: 25V; Price: 2.88; Device Package: Radial, Can, 16mm
footprint CAP AL TH D16 L7.5 H27
pins: 1, 2

## EEU-TP1E272
designator C?, comment 2700uF  (value not drawn)
CAP ALUM 2700UF 20% 25V RADIAL; Part Number: EEU-TP1E272; Manufacturer: Panasonic Electronic Components; TemperatureRange: -40C ~ 135C; Type: Polar; Ripple Current: 2.208A @ 120Hz; Value: 2700uF; PartId: 26973; Supplier 1: Digi-Key; Supplier Part Number 1: P14905-ND; ComponentLink1Description: Datasheet; ComponentLink1URL: http://industrial.panasonic.com/www-cgi/jvcr13pz.cgi?E+PZ+4+ABA0132+EEUTP1E272+8+WW; ComponentLink2Description: Digi-Key Listing; ComponentLink2URL: https://www.digikey.com/product-detail/en/panasonic-electronic-components/EEU-TP1E272/P14905-ND/2757742; Tolerance: 20%; Voltage: 25V; Price: 2.88; Device Package: Radial, Can, 16mm
footprint CAP AL TH D16 L7.5 H27
pins: 1, 2

## EEU-TP1E272B
designator C?, comment 2700uF  (value not drawn)
CAP ALUM 2700UF 20% 25V RADIAL; Part Number: EEU-TP1E272B; Manufacturer: Panasonic Electronic Components; TemperatureRange: -40C ~ 135C; Type: Polar; Ripple Current: 2.208A @ 120Hz; Value: 2700uF; PartId: 26897; Supplier 1: Digi-Key; Supplier Part Number 1: P15697TB-ND; ComponentLink1Description: Datasheet; ComponentLink1URL: http://industrial.panasonic.com/www-cgi/jvcr13pz.cgi?E+PZ+4+ABA0132+EEUTP1E272B+8+WW; ComponentLink2Description: Digi-Key Listing; ComponentLink2URL: https://www.digikey.com/product-detail/en/panasonic-electronic-components/EEU-TP1E272B/P15697TB-ND/2756361; Tolerance: 20%; Voltage: 25V; Price: 1.5266; Device Package: Radial, Can, 16mm
footprint CAP AL TH D16 L7.5 H27
pins: 1, 2

## EEU-TP1E331
designator C?, comment 330uF  (value not drawn)
CAP ALUM 330UF 20% 25V RADIAL; Part Number: EEU-TP1E331; Manufacturer: Panasonic Electronic Components; TemperatureRange: -40C ~ 135C; Type: Polar; Ripple Current: 715mA @ 120Hz; Value: 330uF; PartId: 25429; Supplier 1: Digi-Key; Supplier Part Number 1: P14913-ND; ComponentLink1Description: Datasheet; ComponentLink1URL: http://industrial.panasonic.com/www-cgi/jvcr13pz.cgi?E+PZ+4+ABA0132+EEUTP1E331+8+WW; ComponentLink2Description: Digi-Key Listing; ComponentLink2URL: https://www.digikey.com/product-detail/en/panasonic-electronic-components/EEU-TP1E331/P14913-ND/2757703; Tolerance: 20%; Voltage: 25V; Price: 1.23; Device Package: Radial, Can, 10mm
footprint CAP AL TH D10 L5 H17.5
pins: 1, 2

## EEU-TP1E331B
designator C?, comment 330uF  (value not drawn)
CAP ALUM 330UF 20% 25V RADIAL; Part Number: EEU-TP1E331B; Manufacturer: Panasonic Electronic Components; TemperatureRange: -40C ~ 135C; Type: Polar; Ripple Current: 715mA @ 120Hz; Value: 330uF; PartId: 25232; Supplier 1: Digi-Key; Supplier Part Number 1: P15685TB-ND; ComponentLink1Description: Datasheet; ComponentLink1URL: http://industrial.panasonic.com/www-cgi/jvcr13pz.cgi?E+PZ+4+ABA0132+EEUTP1E331B+8+WW; ComponentLink2Description: Digi-Key Listing; ComponentLink2URL: https://www.digikey.com/product-detail/en/panasonic-electronic-components/EEU-TP1E331B/P15685TB-ND/2756339; Tolerance: 20%; Voltage: 25V; Price: 0.5509; Device Package: Radial, Can, 10mm
footprint CAP AL TH D10 L5 H17.5
pins: 1, 2

## EEU-TP1E332
designator C?, comment 3300uF  (value not drawn)
CAP ALUM 3300UF 20% 25V RADIAL; Part Number: EEU-TP1E332; Manufacturer: Panasonic Electronic Components; TemperatureRange: -40C ~ 135C; Type: Polar; Ripple Current: 2.6A @ 120Hz; Value: 3300uF; PartId: 27283; Supplier 1: Digi-Key; Supplier Part Number 1: P14927-ND; ComponentLink1Description: Datasheet; ComponentLink1URL: http://industrial.panasonic.com/www-cgi/jvcr13pz.cgi?E+PZ+4+ABA0132+EEUTP1E332+8+WW; ComponentLink2Description: Digi-Key Listing; ComponentLink2URL: https://www.digikey.com/product-detail/en/panasonic-electronic-components/EEU-TP1E332/P14927-ND/2757721; Tolerance: 20%; Voltage: 25V; Price: 3.21; Device Package: Radial, Can, 16mm
footprint CAP AL TH D16 L7.5 H33.5
pins: 1, 2

## EEU-TP1E392
designator C?, comment 3900uF  (value not drawn)
CAP ALUM 3900UF 20% 25V RADIAL; Part Number: EEU-TP1E392; Manufacturer: Panasonic Electronic Components; TemperatureRange: -40C ~ 135C; Type: Polar; Ripple Current: 2.6A @ 120Hz; Value: 3900uF; PartId: 27284; Supplier 1: Digi-Key; Supplier Part Number 1: P14926-ND; ComponentLink1Description: Datasheet; ComponentLink1URL: http://industrial.panasonic.com/www-cgi/jvcr13pz.cgi?E+PZ+4+ABA0132+EEUTP1E392+8+WW; ComponentLink2Description: Digi-Key Listing; ComponentLink2URL: https://www.digikey.com/product-detail/en/panasonic-electronic-components/EEU-TP1E392/P14926-ND/2757723; Tolerance: 20%; Voltage: 25V; Price: 3.21; Device Package: Radial, Can, 16mm
footprint CAP AL TH D16 L7.5 H33.5
pins: 1, 2

## EEU-TP1E471
designator C?, comment 470uF  (value not drawn)
CAP ALUM 470UF 20% 25V RADIAL; Part Number: EEU-TP1E471; Manufacturer: Panasonic Electronic Components; TemperatureRange: -40C ~ 135C; Type: Polar; Ripple Current: 825mA @ 120Hz; Value: 470uF; PartId: 25433; Supplier 1: Digi-Key; Supplier Part Number 1: P14912-ND; ComponentLink1Description: Datasheet; ComponentLink1URL: http://industrial.panasonic.com/www-cgi/jvcr13pz.cgi?E+PZ+4+ABA0132+EEUTP1E471+8+WW; ComponentLink2Description: Digi-Key Listing; ComponentLink2URL: https://www.digikey.com/product-detail/en/panasonic-electronic-components/EEU-TP1E471/P14912-ND/2757706; Tolerance: 20%; Voltage: 25V; Price: 1.23; Device Package: Radial, Can, 10mm
footprint CAP AL TH D10 L5 H17.5
pins: 1, 2

## EEU-TP1E511
designator C?, comment 510uF  (value not drawn)
CAP ALUM 510UF 20% 25V RADIAL; Part Number: EEU-TP1E511; Manufacturer: Panasonic Electronic Components; TemperatureRange: -40C ~ 135C; Type: Polar; Ripple Current: 825mA @ 120Hz; Value: 510uF; PartId: 25431; Supplier 1: Digi-Key; Supplier Part Number 1: P14911-ND; ComponentLink1Description: Datasheet; ComponentLink1URL: http://industrial.panasonic.com/www-cgi/jvcr13pz.cgi?E+PZ+4+ABA0132+EEUTP1E511+8+WW; ComponentLink2Description: Digi-Key Listing; ComponentLink2URL: https://www.digikey.com/product-detail/en/panasonic-electronic-components/EEU-TP1E511/P14911-ND/2757726; Tolerance: 20%; Voltage: 25V; Price: 1.23; Device Package: Radial, Can, 10mm
footprint CAP AL TH D10 L5 H17.5
pins: 1, 2

## EEU-TP1E511B
designator C?, comment 510uF  (value not drawn)
CAP ALUM 510UF 20% 25V RADIAL; Part Number: EEU-TP1E511B; Manufacturer: Panasonic Electronic Components; TemperatureRange: -40C ~ 135C; Type: Polar; Ripple Current: 825mA @ 120Hz; Value: 510uF; PartId: 25233; Supplier 1: Digi-Key; Supplier Part Number 1: P15688TB-ND; ComponentLink1Description: Datasheet; ComponentLink1URL: http://industrial.panasonic.com/www-cgi/jvcr13pz.cgi?E+PZ+4+ABA0132+EEUTP1E511B+8+WW; ComponentLink2Description: Digi-Key Listing; ComponentLink2URL: https://www.digikey.com/product-detail/en/panasonic-electronic-components/EEU-TP1E511B/P15688TB-ND/2756343; Tolerance: 20%; Voltage: 25V; Price: 0.5509; Device Package: Radial, Can, 10mm
footprint CAP AL TH D10 L5 H17.5
pins: 1, 2

## EEU-TP1E821
designator C?, comment 820uF  (value not drawn)
CAP ALUM 820UF 20% 25V RADIAL; Part Number: EEU-TP1E821; Manufacturer: Panasonic Electronic Components; TemperatureRange: -40C ~ 135C; Type: Polar; Ripple Current: 1.155A @ 120Hz; Value: 820uF; PartId: 25995; Supplier 1: Digi-Key; Supplier Part Number 1: P14910-ND; ComponentLink1Description: Datasheet; ComponentLink1URL: http://industrial.panasonic.com/www-cgi/jvcr13pz.cgi?E+PZ+4+ABA0132+EEUTP1E821+8+WW; ComponentLink2Description: Digi-Key Listing; ComponentLink2URL: https://www.digikey.com/product-detail/en/panasonic-electronic-components/EEU-TP1E821/P14910-ND/2757708; Tolerance: 20%; Voltage: 25V; Price: 1.41; Device Package: Radial, Can, 10mm
footprint CAP AL TH D10 L5 H22
pins: 1, 2

## EEU-TP1V102
designator C?, comment 1000uF  (value not drawn)
CAP ALUM 1000UF 20% 35V RADIAL; Part Number: EEU-TP1V102; Manufacturer: Panasonic Electronic Components; TemperatureRange: -40C ~ 135C; Type: Polar; Ripple Current: 1.785A @ 120Hz; Value: 1000uF; PartId: 26504; Supplier 1: Digi-Key; Supplier Part Number 1: P14938-ND; ComponentLink1Description: Datasheet; ComponentLink1URL: http://industrial.panasonic.com/www-cgi/jvcr13pz.cgi?E+PZ+4+ABA0132+EEUTP1V102+8+WW; ComponentLink2Description: Digi-Key Listing; ComponentLink2URL: https://www.digikey.com/product-detail/en/panasonic-electronic-components/EEU-TP1V102/P14938-ND/2757707; Tolerance: 20%; Voltage: 35V; Price: 2.48; Device Package: Radial, Can, 16mm
footprint CAP AL TH D16 L7.5 H22
pins: 1, 2

## EEU-TP1V121B
designator C?, comment 120uF  (value not drawn)
CAP ALUM 120UF 20% 35V RADIAL; Part Number: EEU-TP1V121B; Manufacturer: Panasonic Electronic Components; TemperatureRange: -40C ~ 135C; Type: Polar; Ripple Current: 377mA @ 120Hz; Value: 120uF; PartId: 24817; Supplier 1: Digi-Key; Supplier Part Number 1: P15702TB-ND; ComponentLink1Description: Datasheet; ComponentLink1URL: http://industrial.panasonic.com/www-cgi/jvcr13pz.cgi?E+PZ+4+ABA0132+EEUTP1V121B+8+WW; ComponentLink2Description: Digi-Key Listing; ComponentLink2URL: https://www.digikey.com/product-detail/en/panasonic-electronic-components/EEU-TP1V121B/P15702TB-ND/2756372; Tolerance: 20%; Voltage: 35V; Price: 0.4564; Device Package: Radial, Can, 10mm
footprint CAP AL TH D10 L5 H14.5
pins: 1, 2

## EEU-TP1V122
designator C?, comment 1200uF  (value not drawn)
CAP ALUM 1200UF 20% 35V RADIAL; Part Number: EEU-TP1V122; Manufacturer: Panasonic Electronic Components; TemperatureRange: -40C ~ 135C; Type: Polar; Ripple Current: 1.904A @ 120Hz; Value: 1200uF; PartId: 26506; Supplier 1: Digi-Key; Supplier Part Number 1: P14937-ND; ComponentLink1Description: Datasheet; ComponentLink1URL: http://industrial.panasonic.com/www-cgi/jvcr13pz.cgi?E+PZ+4+ABA0132+EEUTP1V122+8+WW; ComponentLink2Description: Digi-Key Listing; ComponentLink2URL: https://www.digikey.com/product-detail/en/panasonic-electronic-components/EEU-TP1V122/P14937-ND/2757727; Tolerance: 20%; Voltage: 35V; Price: 2.48; Device Package: Radial, Can, 16mm
footprint CAP AL TH D16 L7.5 H22
pins: 1, 2

## EEU-TP1V152
designator C?, comment 1500uF  (value not drawn)
CAP ALUM 1500UF 20% 35V RADIAL; Part Number: EEU-TP1V152; Manufacturer: Panasonic Electronic Components; TemperatureRange: -40C ~ 135C; Type: Polar; Ripple Current: 2.208A @ 120Hz; Value: 1500uF; PartId: 26975; Supplier 1: Digi-Key; Supplier Part Number 1: P14936-ND; ComponentLink1Description: Datasheet; ComponentLink1URL: http://industrial.panasonic.com/www-cgi/jvcr13pz.cgi?E+PZ+4+ABA0132+EEUTP1V152+8+WW; ComponentLink2Description: Digi-Key Listing; ComponentLink2URL: https://www.digikey.com/product-detail/en/panasonic-electronic-components/EEU-TP1V152/P14936-ND/2757728; Tolerance: 20%; Voltage: 35V; Price: 2.88; Device Package: Radial, Can, 16mm
footprint CAP AL TH D16 L7.5 H27
pins: 1, 2

## EEU-TP1V152B
designator C?, comment 1500uF  (value not drawn)
CAP ALUM 1500UF 20% 35V RADIAL; Part Number: EEU-TP1V152B; Manufacturer: Panasonic Electronic Components; TemperatureRange: -40C ~ 135C; Type: Polar; Ripple Current: 2.208A @ 120Hz; Value: 1500uF; PartId: 26898; Supplier 1: Digi-Key; Supplier Part Number 1: P15715TB-ND; ComponentLink1Description: Datasheet; ComponentLink1URL: http://industrial.panasonic.com/www-cgi/jvcr13pz.cgi?E+PZ+4+ABA0132+EEUTP1V152B+8+WW; ComponentLink2Description: Digi-Key Listing; ComponentLink2URL: https://www.digikey.com/product-detail/en/panasonic-electronic-components/EEU-TP1V152B/P15715TB-ND/2756370; Tolerance: 20%; Voltage: 35V; Price: 1.5266; Device Package: Radial, Can, 16mm
footprint CAP AL TH D16 L7.5 H27
pins: 1, 2

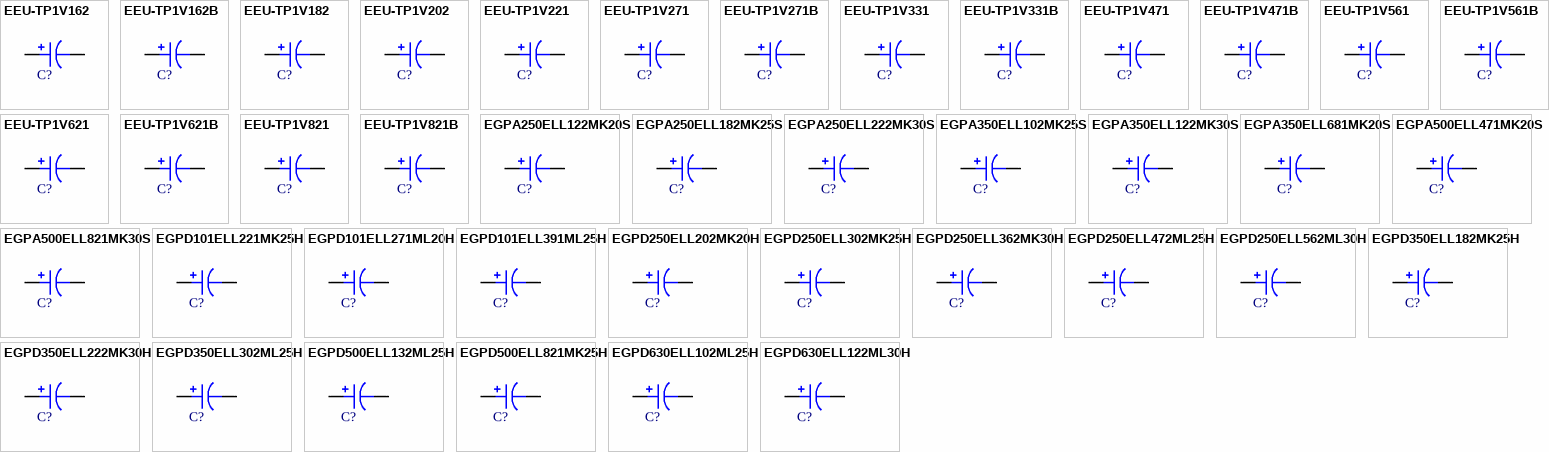
[diagram p38: symbols EEU-TP1V162 to EGPD630ELL122ML30H]

## EEU-TP1V162
designator C?, comment 1600uF  (value not drawn)
CAP ALUM 1600UF 20% 35V RADIAL; Part Number: EEU-TP1V162; Manufacturer: Panasonic Electronic Components; TemperatureRange: -40C ~ 135C; Type: Polar; Ripple Current: 2.208A @ 120Hz; Value: 1600uF; PartId: 26980; Supplier 1: Digi-Key; Supplier Part Number 1: P14935-ND; ComponentLink1Description: Datasheet; ComponentLink1URL: http://industrial.panasonic.com/www-cgi/jvcr13pz.cgi?E+PZ+4+ABA0132+EEUTP1V162+8+WW; ComponentLink2Description: Digi-Key Listing; ComponentLink2URL: https://www.digikey.com/product-detail/en/panasonic-electronic-components/EEU-TP1V162/P14935-ND/2757729; Tolerance: 20%; Voltage: 35V; Price: 3.21; Device Package: Radial, Can, 16mm
footprint CAP AL TH D16 L7.5 H27
pins: 1, 2

## EEU-TP1V162B
designator C?, comment 1600uF  (value not drawn)
CAP ALUM 1600UF 20% 35V RADIAL; Part Number: EEU-TP1V162B; Manufacturer: Panasonic Electronic Components; TemperatureRange: -40C ~ 135C; Type: Polar; Ripple Current: 2.208A @ 120Hz; Value: 1600uF; PartId: 26916; Supplier 1: Digi-Key; Supplier Part Number 1: P15717TB-ND; ComponentLink1Description: Datasheet; ComponentLink1URL: http://industrial.panasonic.com/www-cgi/jvcr13pz.cgi?E+PZ+4+ABA0132+EEUTP1V162B+8+WW; ComponentLink2Description: Digi-Key Listing; ComponentLink2URL: https://www.digikey.com/product-detail/en/panasonic-electronic-components/EEU-TP1V162B/P15717TB-ND/2756362; Tolerance: 20%; Voltage: 35V; Price: 1.6555; Device Package: Radial, Can, 16mm
footprint CAP AL TH D16 L7.5 H27
pins: 1, 2

## EEU-TP1V182
designator C?, comment 1800uF  (value not drawn)
CAP ALUM 1800UF 20% 35V RADIAL; Part Number: EEU-TP1V182; Manufacturer: Panasonic Electronic Components; TemperatureRange: -40C ~ 135C; Type: Polar; Ripple Current: 2.6A @ 120Hz; Value: 1800uF; PartId: 27280; Supplier 1: Digi-Key; Supplier Part Number 1: P14934-ND; ComponentLink1Description: Datasheet; ComponentLink1URL: http://industrial.panasonic.com/www-cgi/jvcr13pz.cgi?E+PZ+4+ABA0132+EEUTP1V182+8+WW; ComponentLink2Description: Digi-Key Listing; ComponentLink2URL: https://www.digikey.com/product-detail/en/panasonic-electronic-components/EEU-TP1V182/P14934-ND/2757730; Tolerance: 20%; Voltage: 35V; Price: 3.17; Device Package: Radial, Can, 16mm
footprint CAP AL TH D16 L7.5 H33.5
pins: 1, 2